# Altium footprint library Nuio_Left_Keyboard_Rev_G.PcbLib: 37 footprints (part 1 of 3)
Each footprint in its own frame and in the unit in brackets; x right, y up, seen from the top. Pads: shape width x height; smd on the part's side, far side on the other; paste and mask are expansions set on the pad; w line width, h text height; cw(c..) or ccw(c..) is an arc to the next point about the centre after c.
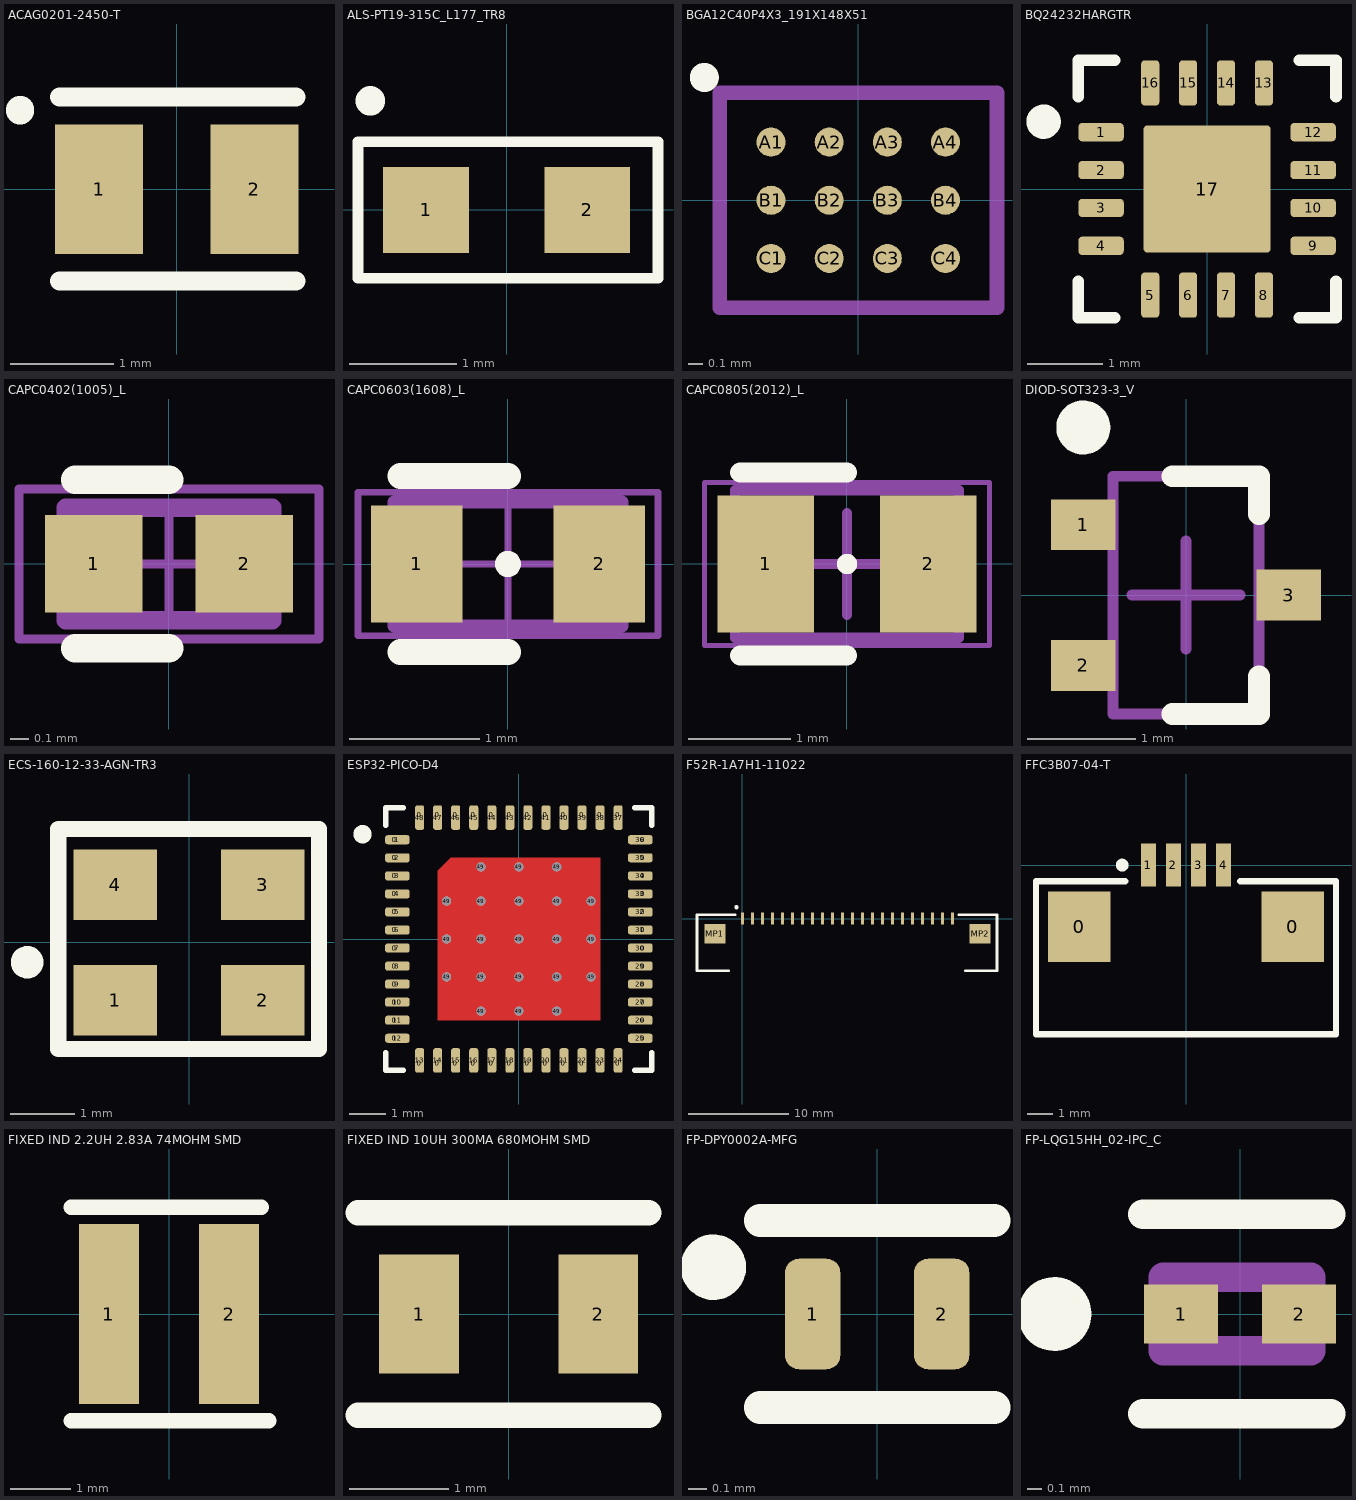
[diagram p0: the footprints below, top view; thin cyan lines are the x and y axes]

## ACAG0201-2450-T [mm]
height 6.858
pads (2):
  rect 0.85x1.25 smd: 1(-0.75,0) 2(0.75,0)
Top Overlay:
  circle w0.254: c-1.515,0.763 r0.01
  lines w0.18: -1.134,-0.888 1.152,-0.888 ; -1.134,0.89 1.152,0.89
3D body "ACAG0201-2450-T--3DModel-STEP-368357.STEP": height 0.61, standoff 0.01, extent -0.991,-0.624 1.009,0.626

## ALS-PT19-315C_L177_TR8 [mm]
pads (2):
  rect 0.8x0.8 smd: 1(-0.75,0) 2(0.75,0)
Top Overlay:
  circle w0.254: c-1.27,1.016 r0.01
  lines w0.1: -1.385,-0.635 -1.385,0.635 1.409,0.635 1.409,-0.635 -1.385,-0.635
3D body "TR8--3DModel-STEP-56544.STEP": height 0.61, standoff 0.01, extent -0.838,-0.4 0.862,0.4

## BGA12C40P4X3_191X148X51 [mm] "BGA, 12-Leads, Body 1.91x1.48mmx0.51mm, Pitch 0.40mm"
height 0.51
pads (12):
  round 0.2 smd: A1(-0.6,0.4) A2(-0.2,0.4) A3(0.2,0.4) A4(0.6,0.4) B1(-0.6,0) B2(-0.2,0) B3(0.2,0) B4(0.6,0) C1(-0.6,-0.4) C2(-0.2,-0.4) C3(0.2,-0.4) C4(0.6,-0.4)
Top Overlay:
  circle w0.1: c-1.06,0.845 r0.05
Mechanical 13:
  lines w0.1: -0.955,-0.74 0.955,-0.74 0.955,0.74 -0.955,0.74 -0.955,-0.74
3D body "BGA12C40P4X3_191X148X51.step": height 0.51, standoff 0, extent -0.955,-0.74 0.955,0.74

## BQ24232HARGTR [mm]
pads (17):
  rrect42% 0.6x0.24 smd: 1(-1.4,0.75) 2(-1.4,0.25) 3(-1.4,-0.25) 4(-1.4,-0.75) 9(1.4,-0.75) 10(1.4,-0.25) 11(1.4,0.25) 12(1.4,0.75)
  rrect42% 0.24x0.6 smd: 5(-0.75,-1.4) 6(-0.25,-1.4) 7(0.25,-1.4) 8(0.75,-1.4) 13(0.75,1.4) 14(0.25,1.4) 15(-0.25,1.4) 16(-0.75,1.4)
  rrect6% 1.68x1.68 smd paste-0.837: 17(0,0)
Top Overlay:
  circle w0.254: c-2.159,0.889 r0.1
  lines w0.152: -1.702,-1.218 -1.702,-1.702 -1.218,-1.702 ; -1.702,1.218 -1.702,1.702 -1.218,1.702 ; 1.218,-1.702 1.702,-1.702 1.702,-1.218 ; 1.218,1.702 1.702,1.702 1.702,1.218
Top Paste:
  region: 0.775,-0.494 0.635,-0.494 0.494,-0.635 0.494,-0.775 0.775,-0.775
  region: 0.775,0.294 0.635,0.294 0.494,0.152 0.494,-0.152 0.635,-0.294 0.775,-0.294
  region: 0.775,0.775 0.494,0.775 0.494,0.635 0.635,0.494 0.775,0.494
  region: 0.152,-0.494 -0.152,-0.494 -0.294,-0.635 -0.294,-0.775 0.294,-0.775 0.294,-0.635
  region: 0.152,0.294 -0.152,0.294 -0.294,0.152 -0.294,-0.152 -0.152,-0.294 0.152,-0.294 0.294,-0.152 0.294,0.152
  region: 0.294,0.775 -0.294,0.775 -0.294,0.635 -0.152,0.494 0.152,0.494 0.294,0.635
  region: -0.635,-0.494 -0.775,-0.494 -0.775,-0.775 -0.494,-0.775 -0.494,-0.635
  region: -0.635,0.294 -0.775,0.294 -0.775,-0.294 -0.635,-0.294 -0.494,-0.152 -0.494,0.152
  region: -0.494,0.775 -0.775,0.775 -0.775,0.494 -0.635,0.494 -0.494,0.635
3D body "RGT16_1P7X1P7_TEX.step": height 1, standoff 0, extent -1.626,-1.626 1.626,1.626

## CAPC0402(1005)_L [mm] "Chip Capacitor, Body 1.0x0.5mm, Height 0.7mm, IPC High Density"
height 0.7
pads (2):
  rect 0.52x0.52 smd mask+0.051: 1(-0.4,0) 2(0.4,0)
Top Overlay:
  lines w0.152: -0.5,-0.45 0,-0.45 ; -0.5,0.45 0,0.45
Mechanical 13:
  lines w0.1: -0.55,-0.3 -0.55,0.3 0.55,0.3 0.55,-0.3 -0.55,-0.3
Mechanical 15:
  lines w0.05: -0.3,0 0.3,0 ; 0,-0.3 0,0.3 ; -0.8,-0.4 -0.8,0.4 0.8,0.4 0.8,-0.4 -0.8,-0.4
3D body: height 0.7, standoff 0, extent -0.3,-0.3 0.3,0.3
3D body: height 0.7, standoff 0, extent -0.55,-0.3 -0.3,0.3
3D body: height 0.7, standoff 0, extent 0.3,-0.3 0.55,0.3

## CAPC0603(1608)_L [mm] "Chip Capacitor, Body 1.6x0.8mm, Height 1.0mm, IPC High Density"
height 1
pads (2):
  rect 0.7x0.9 smd: 1(-0.7,0) 2(0.7,0)
Top Overlay:
  circle w0.1: c0,0 r0.05
  lines w0.2: -0.825,-0.675 0,-0.675 ; -0.825,0.675 0,0.675
Mechanical 13:
  lines w0.1: -0.875,-0.475 -0.875,0.475 0.875,0.475 0.875,-0.475 -0.875,-0.475
Mechanical 15:
  lines w0.05: -0.475,0 0.475,0 ; 0,-0.475 0,0.475 ; -1.15,-0.55 -1.15,0.55 1.15,0.55 1.15,-0.55 -1.15,-0.55
3D body "CAP-0603.STEP": height 0.86, standoff 0, extent -0.8,-0.435 0.8,0.425

## CAPC0805(2012)_L [mm] "Chip Capacitor, Body 2.0x1.2mm, Height 1.55mm, IPC High Density"
height 1.55
pads (2):
  rect 0.95x1.35 smd: 1(-0.8,0) 2(0.8,0)
Top Overlay:
  circle w0.1: c0,0 r0.05
  lines w0.2: -1.05,-0.9 0,-0.9 ; -1.05,0.9 0,0.9
Mechanical 13:
  lines w0.1: -1.1,-0.725 1.1,-0.725 1.1,0.725 -1.1,0.725 -1.1,-0.725
Mechanical 15:
  lines w0.05: -1.4,-0.8 1.4,-0.8 1.4,0.8 -1.4,0.8 -1.4,-0.8
  lines w0.1: -0.5,0 0.5,0 ; 0,-0.5 0,0.5
3D body: height 1.55, standoff 0, extent 0.6,-0.725 1.1,0.725
3D body: height 1.55, standoff 0, extent -1.1,-0.725 -0.6,0.725
3D body: height 1.55, standoff 0, extent -0.6,-0.725 0.6,0.725

## DIOD-SOT323-3_V [mm] "SOT323, 3-Leads, Body 2.2x1.35mm, Pitch 0.65mm"
height 1.071
pads (3):
  rect 0.6x0.47 smd: 1(-0.95,0.65) 2(-0.95,-0.65) 3(0.95,0)
Top Overlay:
  circle w0.25: c-0.95,1.55 r0.125
  lines w0.2: -0.125,-1.1 0.675,-1.1 0.675,-0.75 ; -0.125,1.1 0.675,1.1 0.675,0.75
Mechanical 13:
  lines w0.1: -0.675,-1.1 -0.675,1.1 0.675,1.1 0.675,-1.1 -0.675,-1.1
Mechanical 15:
  lines w0.1: -0.5,0 0.5,0 ; 0,-0.5 0,0.5
3D body "SOT65P210X107-3L.step": height 1.07, standoff 0, extent -1.1,-1.1 1.1,1.1

## ECS-160-12-33-AGN-TR3 [mm] "CRYSTAL 16.0000MHZ 12PF SMD"
pads (4):
  rect 1.3x1.1 smd: 1(-1.15,-0.9) 2(1.15,-0.9) 3(1.15,0.9) 4(-1.15,0.9)
Top Overlay:
  circle w0.254: c-2.522,-0.311 r0.127
  lines w0.254: -2.039,-1.662 2.025,-1.662 2.025,1.767 -2.039,1.767 -2.039,1.386 -2.039,-1.662
3D body: height 0.8, standoff 0.01, extent -1.785,-1.218 1.771,1.196

## ESP32-PICO-D4 [mm]
pads (118):
  rrect50% 0.83x0.25 on Top Paste paste-100 mask+0.05: 0(-3.44,-2.75) 0(-3.44,-2.25) 0(-3.44,-1.75) 0(-3.44,-1.25) 0(-3.44,-0.75) 0(-3.44,-0.25) 0(-3.44,0.25) 0(-3.44,0.75) 0(-3.44,1.25) 0(-3.44,1.75) 0(-3.44,2.25) 0(-3.44,2.75) 0(3.44,-2.75) 0(3.44,-2.25) 0(3.44,-1.75) 0(3.44,-1.25) 0(3.44,-0.75) 0(3.44,-0.25) 0(3.44,0.25) 0(3.44,0.75) 0(3.44,1.25) 0(3.44,1.75) 0(3.44,2.25) 0(3.44,2.75)
  rrect50% 0.25x0.83 on Top Paste paste-100 mask+0.05: 0(-2.75,-3.44) 0(-2.75,3.44) 0(-2.25,-3.44) 0(-2.25,3.44) 0(-1.75,-3.44) 0(-1.75,3.44) 0(-1.25,-3.44) 0(-1.25,3.44) 0(-0.75,-3.44) 0(-0.75,3.44) 0(-0.25,-3.44) 0(-0.25,3.44) 0(0.25,-3.44) 0(0.25,3.44) 0(0.75,-3.44) 0(0.75,3.44) 0(1.25,-3.44) 0(1.25,3.44) 0(1.75,-3.44) 0(1.75,3.44) 0(2.25,-3.44) 0(2.25,3.44) 0(2.75,-3.44) 0(2.75,3.44)
  rrect50% 0.68x0.25 smd paste-100 mask+0.05: 1(-3.365,2.75) 2(-3.365,2.25) 3(-3.365,1.75) 4(-3.365,1.25) 5(-3.365,0.75) 6(-3.365,0.25) 7(-3.365,-0.25) 8(-3.365,-0.75) 9(-3.365,-1.25) 10(-3.365,-1.75) 11(-3.365,-2.25) 12(-3.365,-2.75) 25(3.365,-2.75) 26(3.365,-2.25) 27(3.365,-1.75) 28(3.365,-1.25) 29(3.365,-0.75) 30(3.365,-0.25) 31(3.365,0.25) 32(3.365,0.75) 33(3.365,1.25) 34(3.365,1.75) 35(3.365,2.25) 36(3.365,2.75)
  rrect50% 0.25x0.68 smd paste-100 mask+0.05: 13(-2.75,-3.365) 14(-2.25,-3.365) 15(-1.75,-3.365) 16(-1.25,-3.365) 17(-0.75,-3.365) 18(-0.25,-3.365) 19(0.25,-3.365) 20(0.75,-3.365) 21(1.25,-3.365) 22(1.75,-3.365) 23(2.25,-3.365) 24(2.75,-3.365) 37(2.75,3.365) 38(2.25,3.365) 39(1.75,3.365) 40(1.25,3.365) 41(0.75,3.365) 42(0.25,3.365) 43(-0.25,3.365) 44(-0.75,3.365) 45(-1.25,3.365) 46(-1.75,3.365) 47(-2.25,3.365) 48(-2.75,3.365)
  round 0.25 hole 0.25 mask+0: 49(-2,-1.05) 49(-2,0) 49(-2,1.05) 49(-1.05,-2) 49(-1.05,-1.05) 49(-1.05,0) 49(-1.05,1.05) 49(-1.05,2) 49(0,-2) 49(0,-1.05) 49(0,0) 49(0,1.05) 49(0,2) 49(1.05,-2) 49(1.05,-1.05) 49(1.05,0) 49(1.05,1.05) 49(1.05,2) 49(2,-1.05) 49(2,0) 49(2,1.05)
  round 0.025 smd paste-2.743 mask+0.05: 49(0,0)
Top Layer:
  region: 2.25,-2.25 -2.25,-2.25 -2.25,1.89 -1.89,2.25 2.25,2.25
Top Overlay:
  circle w0.254: c-4.331,2.904 r0.127
  lines w0.152: -3.683,-3.159 -3.683,-3.632 -3.21,-3.632 ; -3.683,3.159 -3.683,3.632 -3.21,3.632 ; 3.21,-3.632 3.683,-3.632 3.683,-3.159 ; 3.21,3.632 3.683,3.632 3.683,3.159
Top Paste:
  region: 1.2,-0.9 1.2,-0.15 1.95,-0.15 1.95,-0.9
  region: 0.15,-0.9 0.15,-0.15 0.9,-0.15 0.9,-0.9
  region: 1.2,0.15 1.2,0.9 1.95,0.9 1.95,0.15
  region: 0.15,0.15 0.15,0.9 0.9,0.9 0.9,0.15
  region: -0.9,-0.9 -0.9,-0.15 -0.15,-0.15 -0.15,-0.9
  region: -0.9,0.15 -0.9,0.9 -0.15,0.9 -0.15,0.15
  region: 1.2,1.2 1.2,1.95 1.95,1.95 1.95,1.2
  region: 0.15,1.2 0.15,1.95 0.9,1.95 0.9,1.2
  region: -0.9,1.2 -0.9,1.95 -0.15,1.95 -0.15,1.2
  region: -1.95,1.2 -1.95,1.95 -1.2,1.95 -1.2,1.2
  region: 0.9,-1.95 0.9,-1.2 0.15,-1.2 0.15,-1.95
  region: 1.95,-1.95 1.95,-1.2 1.2,-1.2 1.2,-1.95
  region: -0.9,-1.95 -0.9,-1.2 -0.15,-1.2 -0.15,-1.95
  region: -1.95,-1.95 -1.95,-1.2 -1.2,-1.2 -1.2,-1.95
  region: -1.95,0.15 -1.95,0.9 -1.2,0.9 -1.2,0.15
  region: -1.95,-0.9 -1.95,-0.15 -1.2,-0.15 -1.2,-0.9
3D body "ESP32-PICO-D4_EXP.step": height 1.04, standoff 0, extent -3.556,-3.556 3.556,3.556

## F52R-1A7H1-11022 [mm]
pads (24):
  rect 0.3x1.2 smd: 1(0,0) 2(1,0) 3(2,0) 4(3,0) 5(4,0) 6(5,0) 7(6,0) 8(7,0) 9(8,0) 10(9,0) 11(10,0) 12(11,0) 13(12,0) 14(13,0) 15(14,0) 16(15,0) 17(16,0) 18(17,0) 19(18,0) 20(19,0) 21(20,0) 22(21,0)
  rect 2.1x1.95 smd: MP1(-2.75,-1.5) MP2(23.75,-1.506)
Top Overlay:
  circle w0.4: c-0.59,1.137 r0.01
  lines w0.254: -1.352,-5.213 -4.527,-5.213 -4.527,0.375 -0.717,0.375 ; 21.635,0.375 25.445,0.375 25.445,-5.213 ; 22.267,-5.235 25.442,-5.235
3D body "f52r_22pin_asm.stp": height 2.06, standoff 0.01, extent -4.397,-5.219 25.403,0.281

## FFC3B07-04-T [mm]
height 6.858
pads (6):
  rect 2.5x2.8 smd: 0(-4.25,-2.45) 0(4.25,-2.45)
  rect 0.6x1.7 smd: 1(-1.5,0) 2(-0.5,0) 3(0.5,0) 4(1.5,0)
Top Overlay:
  circle w0.254: c-2.54,0 r0.127
  lines w0.254: -2.413,-0.635 -5.969,-0.635 -5.969,-6.731 5.969,-6.731 5.969,-0.635 2.159,-0.635
3D body "FFC3B07-04-T.stp": height 2.52, standoff -0.05, extent -5.5,-6.5 5.5,0.25

## FIXED IND 2.2UH 2.83A 74MOHM SMD [mm]
pads (2):
  rect 1x3 smd: 1(-1,0) 2(1,0)
Top Overlay:
  lines w0.254: -1.635,-1.778 1.667,-1.778 ; -1.635,1.778 1.54,1.778
3D body "vls3012cx-1.step": height 1.21, standoff 0.01, extent -1.486,-1.509 1.518,1.509

## FIXED IND 10UH 300MA 680MOHM SMD [mm] "10 µH Shielded Multilayer Inductor 300 mA 680mOhm 0805 (2012 Metric)"
pads (2):
  rect 0.8x1.2 smd: 1(-0.9,0) 2(0.9,0)
Top Overlay:
  lines w0.254: -1.513,-1.016 1.408,-1.016 ; -1.513,1.016 1.408,1.016
3D body "IND_2012_TDK.step": height 1.1, standoff 0, extent -1.1,-0.725 1.1,0.725

## FP-DPY0002A-MFG [mm]
pads (2):
  rrect50% 0.3x0.6 smd paste+0 mask+0.07: 1(-0.35,0) 2(0.35,0)
Top Overlay:
  circle w0.178: c-0.889,0.254 r0.089
  lines w0.178: -0.635,-0.508 0.635,-0.508 ; -0.635,0.508 0.635,0.508
3D body "Diode_Texas_Instruments_TPD1E1B04DPYR_eec.STEP": height 0.25, standoff 0, extent -0.9,-0.45 0.9,0.45

## FP-LQG15HH_02-IPC_C [mm]
pads (2):
  rect 0.5x0.4 smd paste+0: 1(-0.4,0) 2(0.4,0)
Top Overlay:
  circle w0.25: c-1.258,0 r0.125
  lines w0.2: -0.658,-0.675 0.615,-0.675 ; -0.658,0.675 0.615,0.675
Top 3D Body:
  lines w0.2: -0.521,-0.25 -0.521,0.25 0.479,0.25 0.479,-0.25 -0.521,-0.25
3D body "Ind_Murata_LQG15HN39NJ02D_eec.STEP": height 0.55, standoff 0, extent -0.5,-0.25 0.5,0.25